# Altium schematic symbol library IC.SchLib: 15 symbols
Pins are listed as number, name and electrical type; pins without a type are passive.

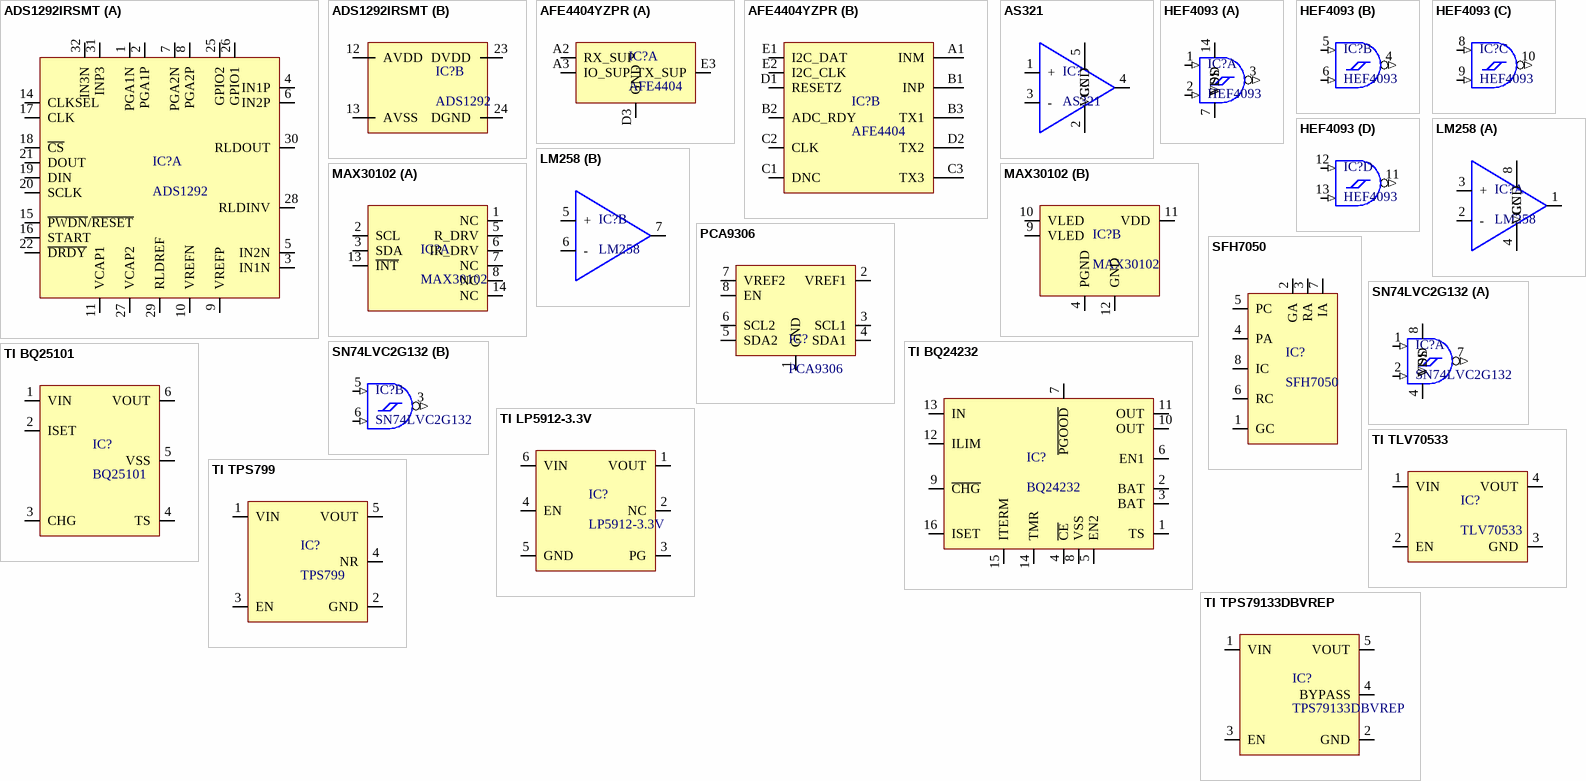
[diagram p0: symbols ADS1292IRSMT to TI TPS79133DBVREP]

## ADS1292IRSMT
designator IC?, comment ADS1292
ADS1292IRSMT Analog Front End - AFE Cmplt Lw Pwr Intgrtd AFE for ECG apps; Manufacture: Texas Instruments; SNR - Signal to Noise Ratio: 107 dB; Package/Cas: VQFN-32; Supply Voltage - Min - Max: 2.7V - 5.25V; Operating Supply Curren: 750 uA; Operating Supply Voltage: 1.7 V to 3.6 V, 2.7 V to 5.25 V; Product Category: Analog Front End - AFE; Series: ADS1292; DatasheetURL: http://www.ti.com/lit/ds/symlink/ads1292.pdf; StoreURL: http://pl.mouser.com/Search/ProductDetail.aspx?R=ADS1292IRSMTvirtualkey59500000virtualkey595-ADS1292IRSMT
footprint QFN 40 no via in pad (QFN, 32-Leads, Body 4,00x4,00mm, Pitch 0,40mm, Thermal Pad 2,80x2,80mm, IPC Medium Density)
footprint TQFP40 (TSQFP, 32-Leads, Body 5.00x5.00mm, Pitch 0.50mm, IPC Medium Density)
part A pins: 1 PGA1N, 2 PGA1P, 3 IN1N, 4 IN1P, 5 IN2N, 6 IN2P, 7 PGA2N, 8 PGA2P, 9 VREFP, 10 VREFN, 11 VCAP1, 14 CLKSEL, 15 ~{PWDN}/~{RESET}, 16 START, 17 CLK, 18 ~{CS}, 19 DIN, 20 SCLK, 21 DOUT, 22 ~{DRDY}, 25 GPIO2, 26 GPIO1, 27 VCAP2, 28 RLDINV, 29 RLDREF, 30 RLDOUT, 31 INP3, 32 IN3N
part B pins: 12 AVDD, 13 AVSS, 23 DVDD, 24 DGND

## AFE4404YZPR
designator IC?, comment AFE4404
AFE4404YZPR Analog Front End - AFE Ultra-small, Integr AFE for Wearable; Manufacturer: Texas Instruments; SNR - Signal to Noise Ratio: 100 dB; Supply Voltage - Min - Max: 1.8 - 5.25 V; Product Category: Analog Front End - AFE; Series: AFE4404; Type: Heart Rate and Oximeter AFE; Package/Case: DSBGA-15; ShopURL: http://pl.mouser.com/Search/ProductDetail.aspx?R=AFE4404YZPRvirtualkey59510000virtualkey595-AFE4404YZPR; DatasheetURL: http://www.ti.com/lit/ds/symlink/afe4404.pdf; Model: AFE4404YZPR
footprint BGA15 (BGA, 15-Leads, Body 1,60x2,60mmx0,50mm, Pitch 0,50mm)
part A pins: A2 RX_SUP, A3 IO_SUP, D3 GND, E3 TX_SUP
part B pins: A1 INM, B1 INP, B2 ADC_RDY, B3 TX1, C1 DNC, C2 CLK, C3 TX3, D1 RESETZ, D2 TX2, E1 I2C_DAT, E2 I2C_CLK

## AS321
designator IC?
Op amp
footprint SOT23, 5-Leads (SOT23, 5-Leads, Body 2.88x2.80mm, Pitch 0.95mm, IPC Medium Density)
pins: 1 +, 2 GND, 3 -, 4 OUT, 5 VCC

## HEF4093
designator IC?
Quad, dual input NAND gate
part A pins: 1 A (in), 2 B (in), 3 Y (out), 7 VSS (power), 14 VDD (power)
part B pins: 4 Y (out), 5 A (in), 6 B (in)
part C pins: 8 A (in), 9 B (in), 10 Y (out)
part D pins: 11 Y (out), 12 A (in), 13 B (in)

## LM258
designator IC?
Op amp
footprint SOIC8 (SOIC, 8-Leads, Body 4.90x3.90mm, Pitch 1.27mm, IPC Medium Density)
part A pins: 1 OUT, 2 -, 3 +, 4 GND, 8 VCC
part B pins: 5 +, 6 -, 7 OUT

## MAX30102
designator IC?
Pulse Oximeter and Heart-Rate Sensor
footprint MAX30102
part A pins: 1 NC, 2 SCL, 3 SDA, 5 R_DRV, 6 IR_DRV, 7 NC, 8 NC, 13 ~{INT}, 14 NC
part B pins: 4 PGND, 9 VLED, 10 VLED, 11 VDD, 12 GND

## PCA9306
designator IC?
Dual Bidirectional I2C Bus and SMBus Voltage-Level Translator
footprint SSOP8
pins: 1 GND, 2 VREF1, 3 SCL1, 4 SDA1, 5 SDA2, 6 SCL2, 7 VREF2, 8 EN

## SFH7050
designator IC?
Multi chip package featuring 3 emitters and one detector
footprint SFH7050 package
pins: 1 GC, 2 GA, 3 RA, 4 PA, 5 PC, 6 RC, 7 IA, 8 IC

## SN74LVC2G132
designator IC?
Dual 2-Input NAND Gate With Schmitt-Trigger Inputs; Value: SN74LVC2G132
footprint TSSOP8 (TSSOP, 8-Leads, Body 2.00x2.30mm, Pitch 0.50mm, IPC Medium Density)
part A pins: 1 A (in), 2 B (in), 4 VSS (power), 7 Y (out), 8 VDD (power)
part B pins: 3 Y (out), 5 A (in), 6 B (in)

## TI BQ24232
designator IC?, comment BQ24232
USB Friendly 0.5A Li+ Charger w/ Dynamic Power Management
footprint QFN16 (QFN, 16-Leads, Body 3.00x3.00mm, Pitch 0.50mm, Thermal Pad 1.68x1.68mm, IPC Medium Density)
pins: 1 TS, 2 BAT, 3 BAT, 4 ~{CE}, 5 EN2, 6 EN1, 7 ~{PGOOD}, 8 VSS, 9 ~{CHG}, 10 OUT, 11 OUT, 12 ILIM, 13 IN, 14 TMR, 15 ITERM, 16 ISET

## TI BQ25101
designator IC?, comment BQ25101
50 mA, 3 V TO 50 V, MICROPOWER, LOW-DROPOUT LINEAR REGULATOR
footprint BGA6 (BGA, 6-Leads, Body 0.88x1.58mmx0.50mm, Pitch 0.40mm)
pins: 1 VIN, 2 ISET, 3 CHG, 4 TS, 5 VSS, 6 VOUT

## TI LP5912-3.3V
designator IC?, comment LP5912-3.3V
50 mA, 3 V TO 50 V, MICROPOWER, LOW-DROPOUT LINEAR REGULATOR
footprint WSON 6 (SON, 6-Leads, Body 2.00x2.00mm, Pitch 0.65mm, Thermal Pad 1.60x0.89mm, IPC Medium Density)
pins: 1 VOUT, 2 NC, 3 PG, 4 EN, 5 GND, 6 VIN

## TI TLV70533
designator IC?, comment TLV70533
ULTRALOW NOISE, HIGH PSRR, FAST RF, 100-mA  LOW-DROPOUT LINEAR REGULATORS
footprint BGA4 (BGA, 4-Leads, Body 0.78x0.78mmx0.50mm, Pitch 0.40mm)
pins: 1 VIN, 2 EN, 3 GND, 4 VOUT

## TI TPS799
designator IC?, comment TPS799
TPS799 200-mA, Low-Quiescent Current, Ultralow Noise, High-PSRR Low-Dropout Linear  Regulator
footprint SOT23, 5-Leads (SOT23, 5-Leads, Body 2.88x2.80mm, Pitch 0.95mm, IPC Medium Density)
pins: 1 VIN, 2 GND, 3 EN, 4 NR, 5 VOUT

## TI TPS79133DBVREP
designator IC?, comment TPS79133DBVREP
ULTRALOW NOISE, HIGH PSRR, FAST RF, 100-mA  LOW-DROPOUT LINEAR REGULATORS
footprint SOT23, 5-Leads (SOT23, 5-Leads, Body 2.88x2.80mm, Pitch 0.95mm, IPC Medium Density)
pins: 1 VIN, 2 GND, 3 EN, 4 BYPASS, 5 VOUT